# Altium integrated library Texas Instruments Power Management PWM Controller.IntLib: 1227 symbols (part 29 of 49)
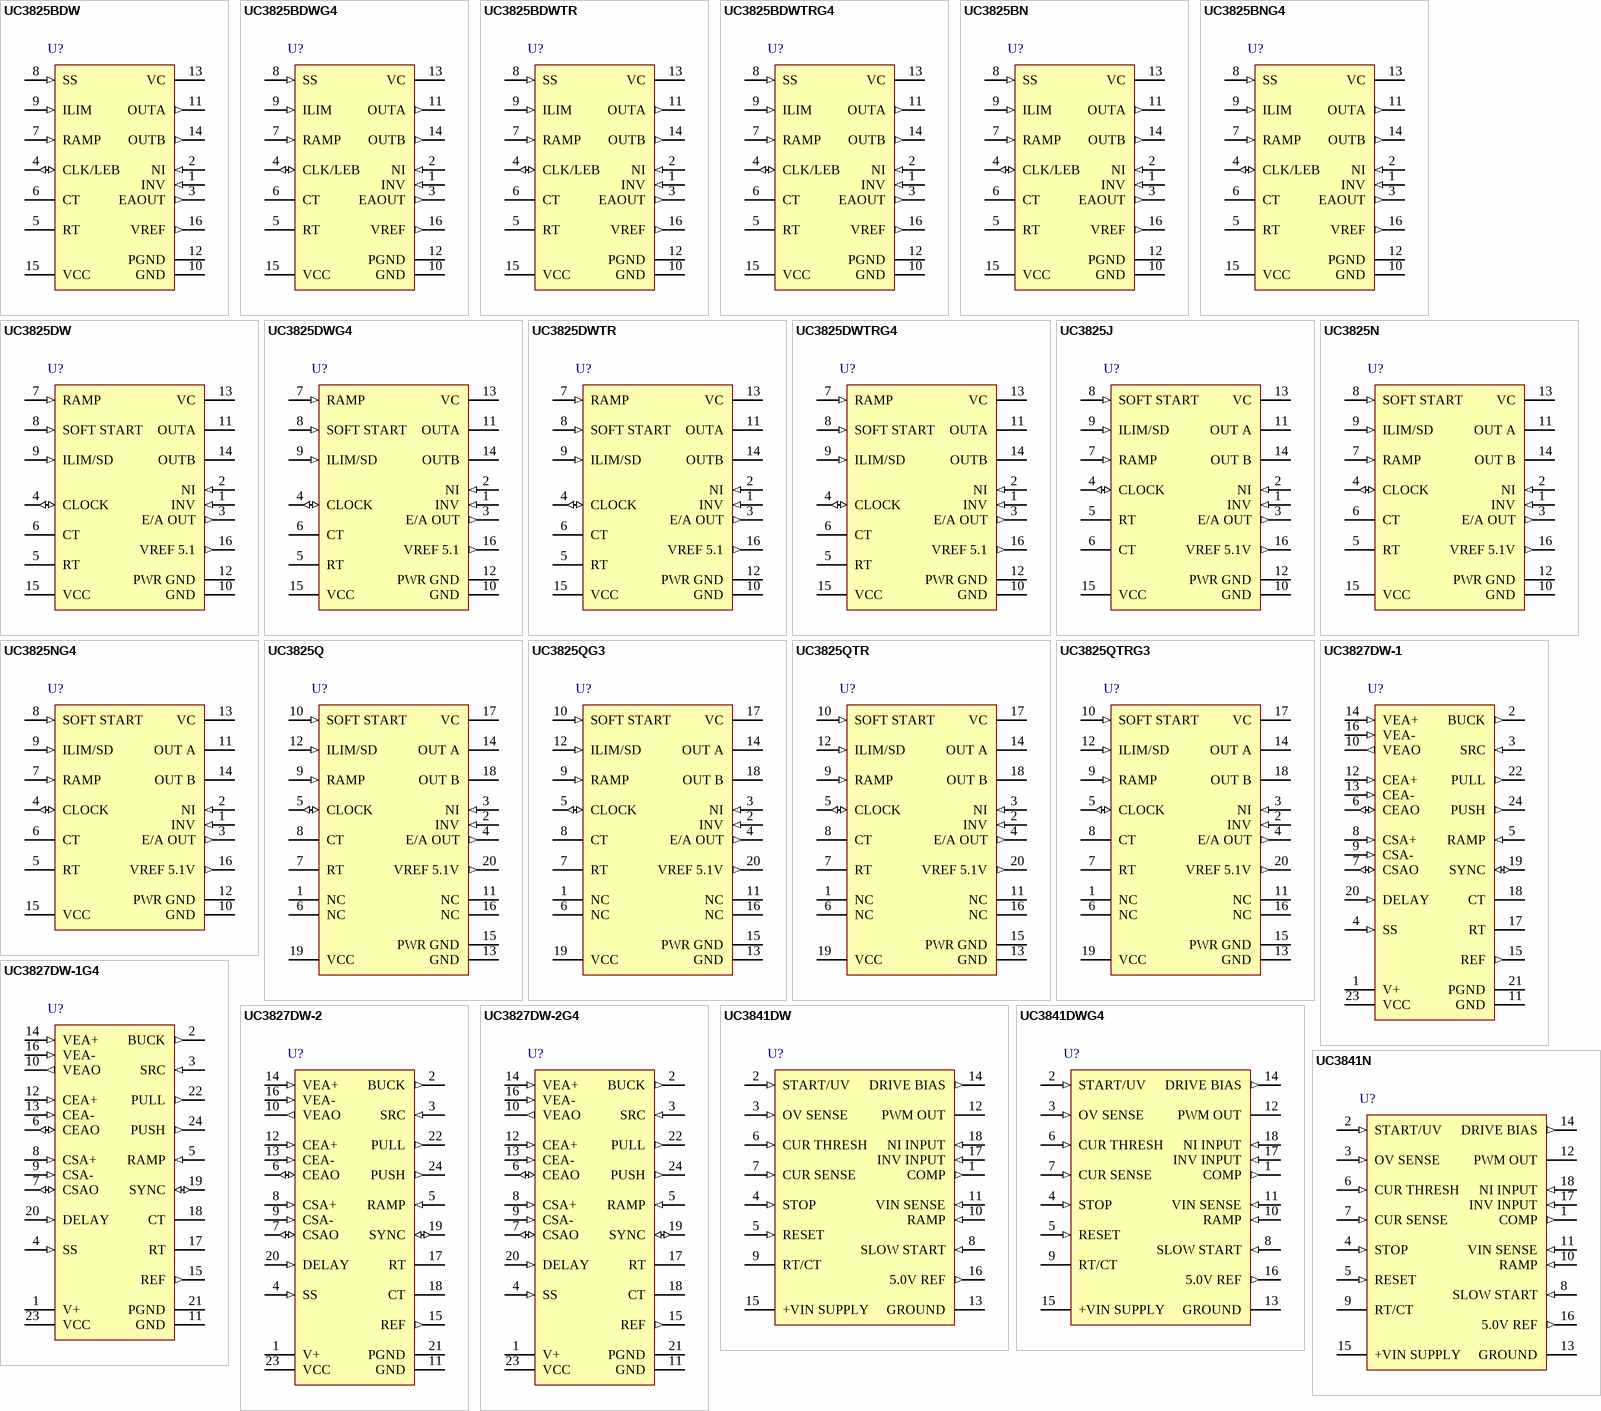
[diagram p71: symbols UC3825BDW to UC3841N]

## UC3827DW-2
designator U?
Buck Current / Voltage Fed Push - Pull PWM Controller with Current Control, 50 % Duty Cycle, 0 to +70 degC, 24-pin SOIC (DW), Green (RoHS & no Sb/Br); PartNumber: UC3827DW-2; Manufacturer: Texas Instruments; Duty Cycle(Max)(%): 50; Frequency(Max)(kHz): 450; Rating: Catalog; Regulated Outputs(#): 3; Topology: Buck, Full-Bridge, Push-Pull; DatasheetVersion: SLUS365D; PackageVersion: revG, Jan-2011; PackageReference: DW24; PackageDescription: 24-Pin Plastic Small Outline Integrated Circuit, 15.4 x 7.5 mm, Pitch 1.27 mm Pitch; Supplier 1: Digi-Key; Supplier Part Number 1: 296-2520-5-ND; Supplier 2: Newark; Supplier Part Number 2: 77C3262; Supplier 3: Mouser; Supplier Part Number 3: 595-UC3827DW-2; Control Method: Current; Eco-Plan: Green (RoHS & no Sb/Br); SubFamily: PWM Controller; UVLO Thresholds On/Off(V): 9/8.4; Mounting Technology: Surface Mount; Code_JEDEC: MS-013AD; ComponentLink1Description: Datasheet; ComponentLink1URL: http://www.ti.com/general/docs/lit/getliterature.tsp?genericPartNumber=UC3827-2&fileType=pdf
footprint DW24_N (SOIC, 24-Leads, Body 15.4x7.5mm, Pitch 1.27mm, IPC Medium Density)
footprint DW24_L (SOIC, 24-Leads, Body 15.4x7.5mm, Pitch 1.27mm, IPC High Density)
footprint DW24_M (SOIC, 24-Leads, Body 15.4x7.5mm, Pitch 1.27mm, IPC Low Density)
pins: 1 V+ (power) "Supply voltage for the buck output. The floating driver of the UC3827 uses the bootstrap technique which requires a reservoir capacitor to store the required energy for the buck switch.A diode must be connected from VCC to (See Datasheet)", 2 BUCK (out) "Output of the buck PWM controller. The BUCK output is a floating driver, optimized for controlling thegate of an N-channel MOSFET. The peak sink and source currents are 1 A. VCC undervoltage faults disables BUCK to an off (See Datasheet)", 3 SRC (in) "The source connection for the floating buck switch. The voltage on the SRC pin can exceed VCC but must be lower than 90 V-VVCC. Also, during turn-off transients of the buck switch, the voltage at SRC can go to -2V.", 4 SS (in) "Soft-start pin requires a capacitor to GND. During soft-start the output of the voltage error amplifier is clamped to the soft-start capacitor voltage which is slowly charged by an internal current source. In UVLO, SS is (See Datasheet)", 5 RAMP (in) "The RAMP voltage, after a 700 mV internal level shift, is fed to the noninverting input of the buck PWM comparator. A resistor to VIN and a capacitor to GND provide an input voltage feedforward signal for the buck controller (See Datasheet)", 6 CEAO (io) "Output of the current error amplifier and the inverting input of the PWM comparator of the buck converter.", 7 CSAO (io) "Output of the current sense amplifier and the noninverting input of the current limit comparator.when  the signal level on this pin exceeds the 3V threshold of the current limit comparator, the buck gate drive pulse is (See Datasheet)", 8 CSA+ (in) "Non-inverting input of the current error amplifier.", 9 CSA- (in) "Inverting input of the current error amplifier.", 10 VEAO (out) "Output of the voltage error amplifier.", 11 GND (power) "Ground reference for all sensitive setup components not related to driving the outputs. They include all timing, voltage sense, current sense, and bypass components.", 12 CEA+ (in) "Non-inverting input of the current error amplifier.", 13 CEA- (in) "Inverting input of the current error amplifier.", 14 VEA+ (in) "Non-inverting input of the voltage error amplifier.", 15 REF (out) "The output of the +5V on board reference.Byaoss this pin with a capacitor to GND. The reference is off when the chip is in undervoltage lockout mode.", 16 VEA- (in) "Inverting input of the voltage error amplifier", 17 RT "A resistor to GND programs the charge current of the timing capacitor connected to CT. The charge current approximately equals that shown in equation. The charge current should be less than 500 uA to keep CT's discharge peak (See Datasheet)", 18 CT "Provides for the timing capacitor which is connected between CT and GND. The oscillator frequency is set by CT and a resistor RT, connected between pin RT and GND. The CT discharge current is approximately 40 x the bias (See Datasheet)", 19 SYNC (io) "A bidirectional pin for the oscillator., used to synchronize several chips to the fastest oscillator. Its input synchronization threshold is 1.4 V. The SYNC voltage is 3.6 V when the oscillator capacitor, CT, is discharged. (See Datasheet)", 20 DELAY (in) "A resistor to GND programs the overlap time of the PUSH and PULL outputs of the UC3827-1 and the dead time of the PUSH and PULL outputs of the UC3827-2. The minimum value of the resistor, RDELAY, is 18 kohm. The delay or (See Datasheet)", 21 PGND (power) "Ground connection for the PUSH and PULL outputs. PGND must be connected to GND at a single point on the printed circuit board. This is imperative to prevent large, high frequency switching currents flowing through the ground (See Datasheet)", 22 PULL (out) "Ground referenced output to drive an N-channel MOSFET. The PULL and the PUSH outputs are driving the two switches of the push-pull converter with complementary signals at close to a 50% duty cycle.Any undervoltage faults (See Datasheet)", 23 VCC (power) "Voltage source connected to this pin supplies the power for the UC3827.It is recommended to bypass this pin to both GND and PGND ground connections with good quality high frequency capacitors.", 24 PUSH (out) "Ground referenced output to drive an N-channel MOSFET. The PULL and the PUSH outputs are driving the two switches of the push-pull converter with complementary signals at close to a 50% duty cycle. Any undervoltage faults (See Datasheet)"

## UC3827DW-2G4
designator U?
Buck Current / Voltage Fed Push - Pull PWM Controller with Current Control, 50 % Duty Cycle, 0 to +70 degC, 24-pin SOIC (DW), Green (RoHS & no Sb/Br); PartNumber: UC3827DW-2G4; Manufacturer: Texas Instruments; Duty Cycle(Max)(%): 50; Frequency(Max)(kHz): 450; Rating: Catalog; Regulated Outputs(#): 3; Topology: Buck, Full-Bridge, Push-Pull; DatasheetVersion: SLUS365D; PackageVersion: revG, Jan-2011; PackageReference: DW24; PackageDescription: 24-Pin Plastic Small Outline Integrated Circuit, 15.4 x 7.5 mm, Pitch 1.27 mm Pitch; Supplier 1: Digi-Key; Supplier Part Number 1: UC3827DW-2G4-ND; Supplier 2: Newark; Supplier Part Number 2: 73K9707; Supplier 3: Mouser; Supplier Part Number 3: 595-UC3827DW-2G4; Control Method: Current; Eco-Plan: Green (RoHS & no Sb/Br); SubFamily: PWM Controller; UVLO Thresholds On/Off(V): 9/8.4; Mounting Technology: Surface Mount; Code_JEDEC: MS-013AD; ComponentLink1Description: Datasheet; ComponentLink1URL: http://www.ti.com/general/docs/lit/getliterature.tsp?genericPartNumber=UC3827-2&fileType=pdf
footprint DW24_N (SOIC, 24-Leads, Body 15.4x7.5mm, Pitch 1.27mm, IPC Medium Density)
footprint DW24_L (SOIC, 24-Leads, Body 15.4x7.5mm, Pitch 1.27mm, IPC High Density)
footprint DW24_M (SOIC, 24-Leads, Body 15.4x7.5mm, Pitch 1.27mm, IPC Low Density)
pins: 1 V+ (power) "Supply voltage for the buck output. The floating driver of the UC3827 uses the bootstrap technique which requires a reservoir capacitor to store the required energy for the buck switch.A diode must be connected from VCC to (See Datasheet)", 2 BUCK (out) "Output of the buck PWM controller. The BUCK output is a floating driver, optimized for controlling thegate of an N-channel MOSFET. The peak sink and source currents are 1 A. VCC undervoltage faults disables BUCK to an off (See Datasheet)", 3 SRC (in) "The source connection for the floating buck switch. The voltage on the SRC pin can exceed VCC but must be lower than 90 V-VVCC. Also, during turn-off transients of the buck switch, the voltage at SRC can go to -2V.", 4 SS (in) "Soft-start pin requires a capacitor to GND. During soft-start the output of the voltage error amplifier is clamped to the soft-start capacitor voltage which is slowly charged by an internal current source. In UVLO, SS is (See Datasheet)", 5 RAMP (in) "The RAMP voltage, after a 700 mV internal level shift, is fed to the noninverting input of the buck PWM comparator. A resistor to VIN and a capacitor to GND provide an input voltage feedforward signal for the buck controller (See Datasheet)", 6 CEAO (io) "Output of the current error amplifier and the inverting input of the PWM comparator of the buck converter.", 7 CSAO (io) "Output of the current sense amplifier and the noninverting input of the current limit comparator.when  the signal level on this pin exceeds the 3V threshold of the current limit comparator, the buck gate drive pulse is (See Datasheet)", 8 CSA+ (in) "Non-inverting input of the current error amplifier.", 9 CSA- (in) "Inverting input of the current error amplifier.", 10 VEAO (out) "Output of the voltage error amplifier.", 11 GND (power) "Ground reference for all sensitive setup components not related to driving the outputs. They include all timing, voltage sense, current sense, and bypass components.", 12 CEA+ (in) "Non-inverting input of the current error amplifier.", 13 CEA- (in) "Inverting input of the current error amplifier.", 14 VEA+ (in) "Non-inverting input of the voltage error amplifier.", 15 REF (out) "The output of the +5V on board reference.Byaoss this pin with a capacitor to GND. The reference is off when the chip is in undervoltage lockout mode.", 16 VEA- (in) "Inverting input of the voltage error amplifier", 17 RT "A resistor to GND programs the charge current of the timing capacitor connected to CT. The charge current approximately equals that shown in equation. The charge current should be less than 500 uA to keep CT's discharge peak (See Datasheet)", 18 CT "Provides for the timing capacitor which is connected between CT and GND. The oscillator frequency is set by CT and a resistor RT, connected between pin RT and GND. The CT discharge current is approximately 40 x the bias (See Datasheet)", 19 SYNC (io) "A bidirectional pin for the oscillator., used to synchronize several chips to the fastest oscillator. Its input synchronization threshold is 1.4 V. The SYNC voltage is 3.6 V when the oscillator capacitor, CT, is discharged. (See Datasheet)", 20 DELAY (in) "A resistor to GND programs the overlap time of the PUSH and PULL outputs of the UC3827-1 and the dead time of the PUSH and PULL outputs of the UC3827-2. The minimum value of the resistor, RDELAY, is 18 kohm. The delay or (See Datasheet)", 21 PGND (power) "Ground connection for the PUSH and PULL outputs. PGND must be connected to GND at a single point on the printed circuit board. This is imperative to prevent large, high frequency switching currents flowing through the ground (See Datasheet)", 22 PULL (out) "Ground referenced output to drive an N-channel MOSFET. The PULL and the PUSH outputs are driving the two switches of the push-pull converter with complementary signals at close to a 50% duty cycle.Any undervoltage faults (See Datasheet)", 23 VCC (power) "Voltage source connected to this pin supplies the power for the UC3827.It is recommended to bypass this pin to both GND and PGND ground connections with good quality high frequency capacitors.", 24 PUSH (out) "Ground referenced output to drive an N-channel MOSFET. The PULL and the PUSH outputs are driving the two switches of the push-pull converter with complementary signals at close to a 50% duty cycle. Any undervoltage faults (See Datasheet)"

## UC3841DW
designator U?
Programmable, Off-Line, PWM Controller with Current, Voltage Control, 95 % Duty Cycle, 0 to +70 degC, 18-pin SOIC (DW), Green (RoHS & no Sb/Br); PartNumber: UC3841DW; Manufacturer: Texas Instruments; Duty Cycle(Max)(%): 95; Frequency(Max)(kHz): 450; Rating: Military; Regulated Outputs(#): 1; Topology: Boost, Flyback, Forward; DatasheetVersion: SLUS208; PackageVersion: revG, Jan-2011; PackageReference: DW18; PackageDescription: 18-Pin Plastic Small Outline Integrated Circuit, 11.6 x 7.5 mm, Pitch 1.27 mm Pitch; Supplier 1: Digi-Key; Supplier Part Number 1: UC3841DW-ND; Supplier 2: Newark; Supplier Part Number 2: 77C3286; Supplier 3: Mouser; Supplier Part Number 3: 595-UC3841DW; Control Method: Current, Voltage; Eco-Plan: Green (RoHS & no Sb/Br); SubFamily: PWM Controller; UVLO Thresholds On/Off(V): 8/7.8; Mounting Technology: Surface Mount; Code_JEDEC: MS-013-AB; ComponentLink1Description: Datasheet; ComponentLink1URL: http://www.ti.com/general/docs/lit/getliterature.tsp?genericPartNumber=UC3841&fileType=pdf
footprint DW18_N (SOIC, 18-Leads, Body 11.6x7.5mm, Pitch 1.27mm, IPC Medium Density)
footprint DW18_L (SOIC, 18-Leads, Body 11.6x7.5mm, Pitch 1.27mm, IPC High Density)
footprint DW18_M (SOIC, 18-Leads, Body 11.6x7.5mm, Pitch 1.27mm, IPC Low Density)
pins: 1 COMP (out), 2 START/UV (in), 3 OV SENSE (in), 4 STOP (in), 5 RESET (in), 6 CUR THRESH (in), 7 CUR SENSE (in), 8 SLOW START (in), 9 RT/CT, 10 RAMP (in), 11 VIN SENSE (in), 12 PWM OUT (oc), 13 GROUND (power), 14 DRIVE BIAS (out), 15 +VIN SUPPLY (power), 16 5.0V REF (out), 17 INV INPUT (in), 18 NI INPUT (in)

## UC3841DWG4
designator U?
Programmable, Off-Line, PWM Controller with Current, Voltage Control, 95 % Duty Cycle, 0 to +70 degC, 18-pin SOIC (DW), Green (RoHS & no Sb/Br); PartNumber: UC3841DWG4; Manufacturer: Texas Instruments; Duty Cycle(Max)(%): 95; Frequency(Max)(kHz): 450; Rating: Military; Regulated Outputs(#): 1; Topology: Boost, Flyback, Forward; DatasheetVersion: SLUS208; PackageVersion: revG, Jan-2011; PackageReference: DW18; PackageDescription: 18-Pin Plastic Small Outline Integrated Circuit, 11.6 x 7.5 mm, Pitch 1.27 mm Pitch; Supplier 1: Digi-Key; Supplier Part Number 1: UC3841DWG4-ND; Supplier 2: Newark; Supplier Part Number 2: 66K4923; Supplier 3: Mouser; Supplier Part Number 3: 595-UC3841DWG4; Control Method: Current, Voltage; Eco-Plan: Green (RoHS & no Sb/Br); SubFamily: PWM Controller; UVLO Thresholds On/Off(V): 8/7.8; Mounting Technology: Surface Mount; Code_JEDEC: MS-013-AB; ComponentLink1Description: Datasheet; ComponentLink1URL: http://www.ti.com/general/docs/lit/getliterature.tsp?genericPartNumber=UC3841&fileType=pdf
footprint DW18_N (SOIC, 18-Leads, Body 11.6x7.5mm, Pitch 1.27mm, IPC Medium Density)
footprint DW18_L (SOIC, 18-Leads, Body 11.6x7.5mm, Pitch 1.27mm, IPC High Density)
footprint DW18_M (SOIC, 18-Leads, Body 11.6x7.5mm, Pitch 1.27mm, IPC Low Density)
pins: 1 COMP (out), 2 START/UV (in), 3 OV SENSE (in), 4 STOP (in), 5 RESET (in), 6 CUR THRESH (in), 7 CUR SENSE (in), 8 SLOW START (in), 9 RT/CT, 10 RAMP (in), 11 VIN SENSE (in), 12 PWM OUT (oc), 13 GROUND (power), 14 DRIVE BIAS (out), 15 +VIN SUPPLY (power), 16 5.0V REF (out), 17 INV INPUT (in), 18 NI INPUT (in)

## UC3841N
designator U?
Programmable, Off-Line, PWM Controller with Current, Voltage Control, 95 % Duty Cycle, 0 to +70 degC, 18-pin PDIP (N), Green (RoHS & no Sb/Br); PartNumber: UC3841N; Manufacturer: Texas Instruments; Duty Cycle(Max)(%): 95; Frequency(Max)(kHz): 450; Rating: Military; Regulated Outputs(#): 1; Topology: Boost, Flyback, Forward; DatasheetVersion: SLUS208; PackageVersion: revE, Dec-2002; PackageReference: N18; PackageDescription: 18-Pin Plastic Dual-In-Line Package, Row Spacing 7.62 mm, Pitch 2.54 mm; Supplier 1: Digi-Key; Supplier Part Number 1: 296-11277-5-ND; Supplier 2: Newark; Supplier Part Number 2: 22C4919; Supplier 3: Mouser; Supplier Part Number 3: 595-UC3841N; Control Method: Current, Voltage; Eco-Plan: Green (RoHS & no Sb/Br); SubFamily: PWM Controller; UVLO Thresholds On/Off(V): 8/7.8; Mounting Technology: Through Hole; Code_JEDEC: MS-001-AC*; ComponentLink1Description: Datasheet; ComponentLink1URL: http://www.ti.com/general/docs/lit/getliterature.tsp?genericPartNumber=UC3841&fileType=pdf
footprint N18 (DIP, 18-Leads, Row Spacing 7.62mm, Pitch 2.54mm, Body 22.5x6.4mm)
pins: 1 COMP (out), 2 START/UV (in), 3 OV SENSE (in), 4 STOP (in), 5 RESET (in), 6 CUR THRESH (in), 7 CUR SENSE (in), 8 SLOW START (in), 9 RT/CT, 10 RAMP (in), 11 VIN SENSE (in), 12 PWM OUT (oc), 13 GROUND (power), 14 DRIVE BIAS (out), 15 +VIN SUPPLY (power), 16 5.0V REF (out), 17 INV INPUT (in), 18 NI INPUT (in)

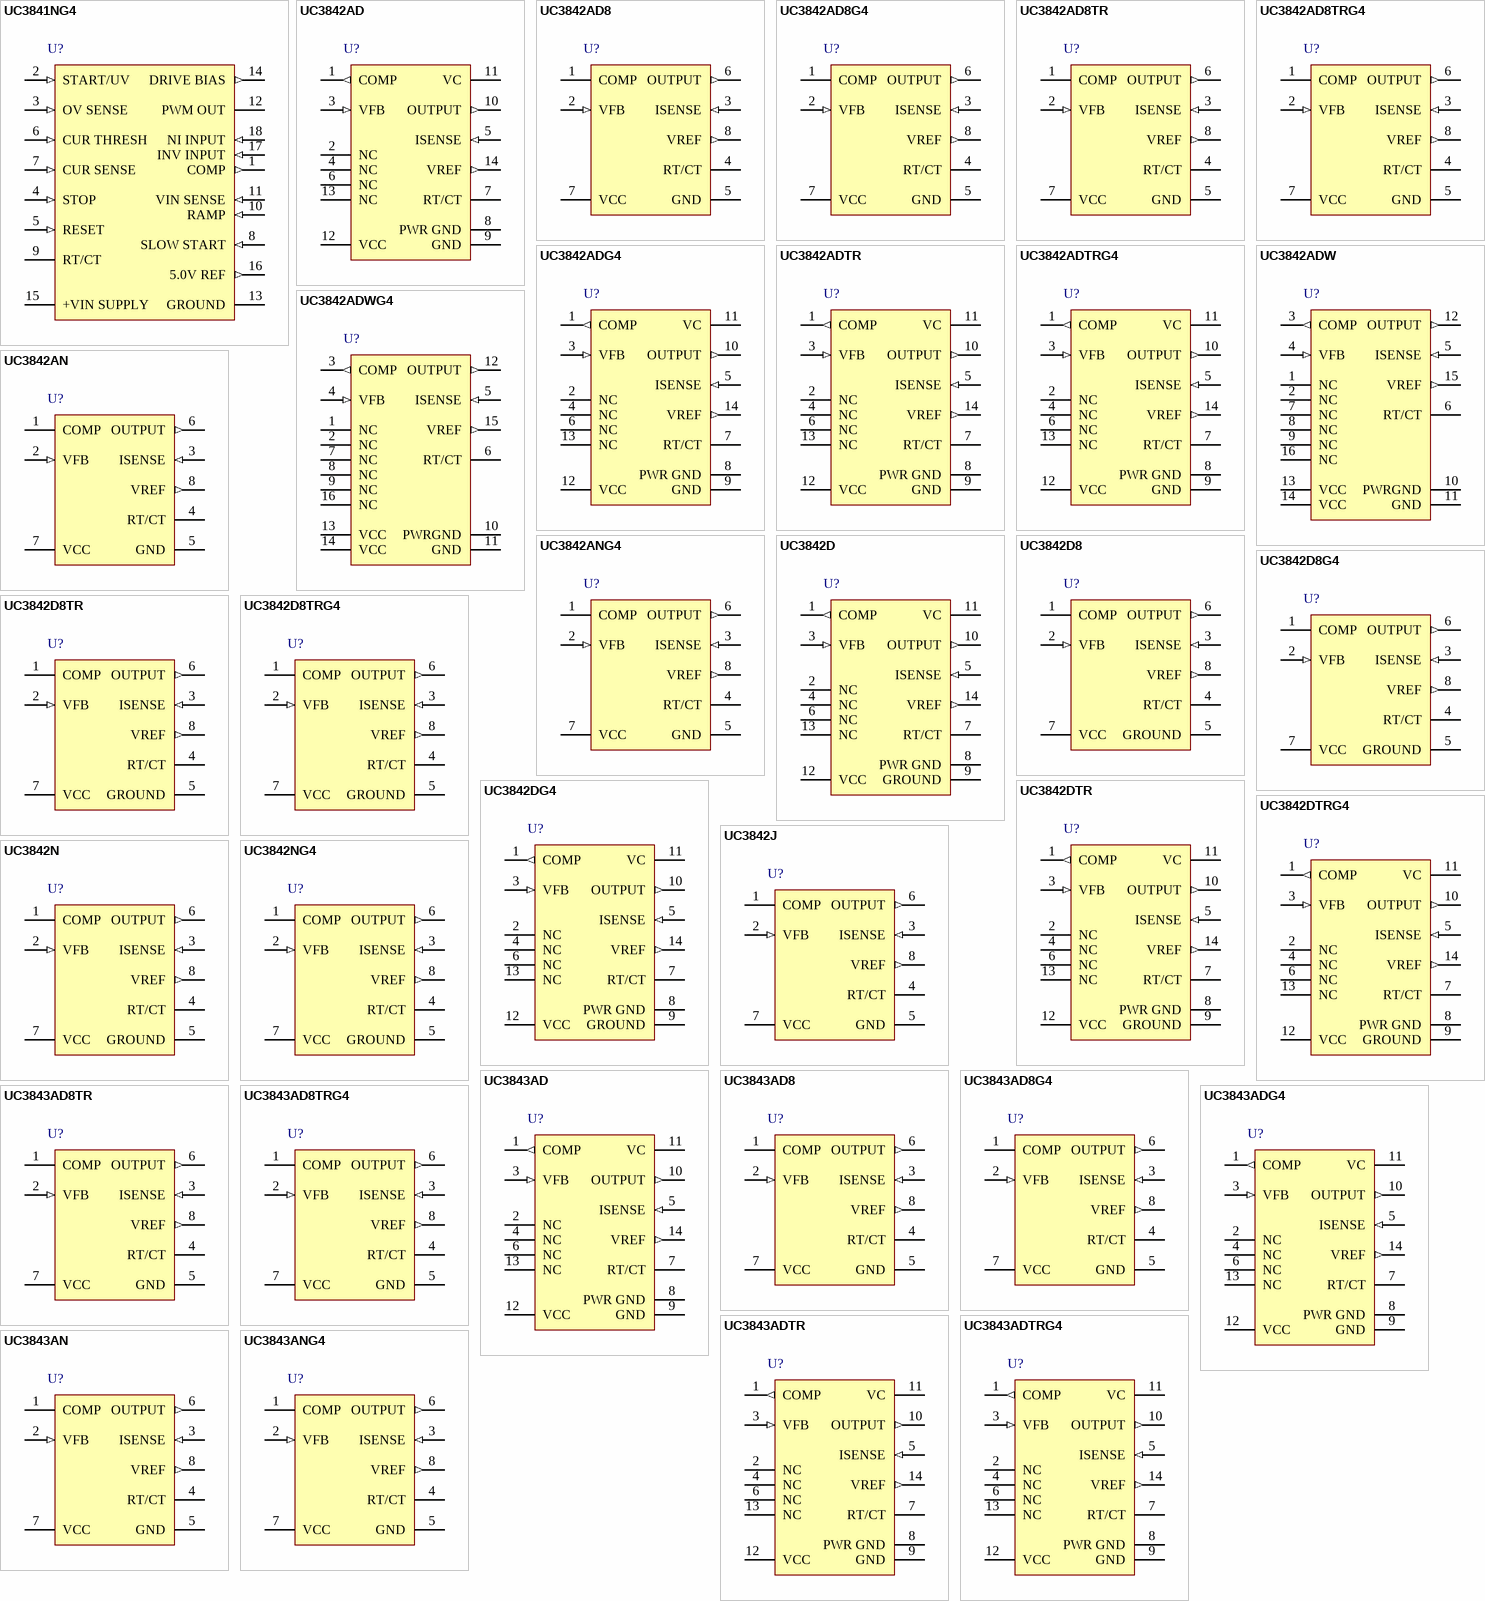
[diagram p31: symbols UC3841NG4 to UC3843ANG4]

## UC3841NG4
designator U?
Programmable, Off-Line, PWM Controller with Current, Voltage Control, 95 % Duty Cycle, 0 to +70 degC, 18-pin PDIP (N), Green (RoHS & no Sb/Br); PartNumber: UC3841NG4; Manufacturer: Texas Instruments; Duty Cycle(Max)(%): 95; Frequency(Max)(kHz): 450; Rating: Military; Regulated Outputs(#): 1; Topology: Boost, Flyback, Forward; DatasheetVersion: SLUS208; PackageVersion: revE, Dec-2002; PackageReference: N18; PackageDescription: 18-Pin Plastic Dual-In-Line Package, Row Spacing 7.62 mm, Pitch 2.54 mm; Supplier 1: Digi-Key; Supplier Part Number 1: UC3841NG4-ND; Supplier 2: Newark; Supplier Part Number 2: 54K2327; Supplier 3: Mouser; Supplier Part Number 3: 595-UC3841NG4; Control Method: Current,Voltage; Eco-Plan: Green (RoHS & no Sb/Br); SubFamily: PWM Controller; UVLO Thresholds On/Off(V): 8/7.8; Mounting Technology: Through Hole; Code_JEDEC: MS-001-AC*; ComponentLink1Description: Datasheet; ComponentLink1URL: http://www.ti.com/general/docs/lit/getliterature.tsp?genericPartNumber=UC3841&fileType=pdf
footprint N18 (DIP, 18-Leads, Row Spacing 7.62mm, Pitch 2.54mm, Body 22.5x6.4mm)
pins: 1 COMP (out), 2 START/UV (in), 3 OV SENSE (in), 4 STOP (in), 5 RESET (in), 6 CUR THRESH (in), 7 CUR SENSE (in), 8 SLOW START (in), 9 RT/CT, 10 RAMP (in), 11 VIN SENSE (in), 12 PWM OUT (oc), 13 GROUND (power), 14 DRIVE BIAS (out), 15 +VIN SUPPLY (power), 16 5.0V REF (out), 17 INV INPUT (in), 18 NI INPUT (in)

## UC3842AD
designator U?
PWM Controller with Current Control, 100 % Duty Cycle, 0 to +70 degC, 14-pin SOIC (D), Green (RoHS & no Sb/Br); PartNumber: UC3842AD; Manufacturer: Texas Instruments; Duty Cycle(Max)(%): 100; Frequency(Max)(kHz): 450; Rating: Catalog; Regulated Outputs(#): 1; Topology: Boost, Buck, Flyback, Forward; UVLO Thresholds On/Off(V): 16/10; DatasheetVersion: SLUS224C; PackageVersion: revM, Jun-2011; PackageReference: D14; PackageDescription: 14-Pin Plastic Small Outline Integrated Circuit, 8.7 x 3.9 mm, Pitch 1.27 mm Pitch; Supplier 1: Digi-Key; Supplier Part Number 1: 296-11278-5-ND; Supplier 2: Farnell; Supplier Part Number 2: 1461267; Supplier 3: Newark; Supplier Part Number 3: 88K1282; Supplier 4: Mouser; Supplier Part Number 4: 595-UC3842AD; Control Method: Current; Eco-Plan: Green (RoHS & no Sb/Br); SubFamily: PWM Controller; Mounting Technology: Surface Mount; Code_JEDEC: MS-012AB; ComponentLink1Description: Datasheet; ComponentLink1URL: http://www.ti.com/general/docs/lit/getliterature.tsp?genericPartNumber=UC3842A&fileType=pdf
footprint D14_N (SOIC, 14-Leads, Body 8.7x3.9mm, Pitch 1.27mm, IPC Medium Density)
footprint D14_L (SOIC, 14-Leads, Body 8.7x3.9mm, Pitch 1.27mm, IPC High Density)
footprint D14_M (SOIC, 14-Leads, Body 8.7x3.9mm, Pitch 1.27mm, IPC Low Density)
pins: 1 COMP (out), 2 NC, 3 VFB (in), 4 NC, 5 ISENSE (in), 6 NC, 7 RT/CT, 8 PWR GND (power), 9 GND (power), 10 OUTPUT (out), 11 VC (power), 12 VCC (power), 13 NC, 14 VREF (out)

## UC3842AD8
designator U?
PWM Controller with Current Control, 100 % Duty Cycle, 0 to +70 degC, 8-pin SOIC (D), Green (RoHS & no Sb/Br); PartNumber: UC3842AD8; Manufacturer: Texas Instruments; Duty Cycle(Max)(%): 100; Frequency(Max)(kHz): 450; Rating: Catalog; Regulated Outputs(#): 1; Topology: Boost, Buck, Flyback, Forward; UVLO Thresholds On/Off(V): 16/10; DatasheetVersion: SLUS224C; PackageVersion: revM, Jun-2011; PackageReference: D8; PackageDescription: 8-Pin Plastic Small Outline Integrated Circuit, 4.9 x 3.9 mm, Pitch 1.27 mm Pitch; Supplier 1: Digi-Key; Supplier Part Number 1: 296-11279-5-ND; Supplier 2: Farnell; Supplier Part Number 2: 1564880; Supplier 3: Newark; Supplier Part Number 3: 74K4011; Supplier 4: Mouser; Supplier Part Number 4: 595-UC3842AD8; Control Method: Current; Eco-Plan: Green (RoHS & no Sb/Br); SubFamily: PWM Controller; Mounting Technology: Surface Mount; Code_JEDEC: MS-012AA; ComponentLink1Description: Datasheet; ComponentLink1URL: http://www.ti.com/general/docs/lit/getliterature.tsp?genericPartNumber=UC3842A&fileType=pdf
footprint D8_N (SOIC, 8-Leads, Body 4.9x3.9mm, Pitch 1.27mm, IPC Medium Density)
footprint D8_L (SOIC, 8-Leads, Body 4.9x3.9mm, Pitch 1.27mm, IPC High Density)
footprint D8_M (SOIC, 8-Leads, Body 4.9x3.9mm, Pitch 1.27mm, IPC Low Density)
pins: 1 COMP, 2 VFB (in), 3 ISENSE (in), 4 RT/CT, 5 GND (power), 6 OUTPUT (out), 7 VCC (power), 8 VREF (out)

## UC3842AD8G4
designator U?
PWM Controller with Current Control, 100 % Duty Cycle, 0 to +70 degC, 8-pin SOIC (D), Green (RoHS & no Sb/Br); PartNumber: UC3842AD8G4; Manufacturer: Texas Instruments; Duty Cycle(Max)(%): 100; Frequency(Max)(kHz): 450; Rating: Catalog; Regulated Outputs(#): 1; Topology: Boost, Buck, Flyback, Forward; UVLO Thresholds On/Off(V): 16/10; DatasheetVersion: SLUS224C; PackageVersion: revM, Jun-2011; PackageReference: D8; PackageDescription: 8-Pin Plastic Small Outline Integrated Circuit, 4.9 x 3.9 mm, Pitch 1.27 mm Pitch; Supplier 1: Digi-Key; Supplier Part Number 1: UC3842AD8G4-ND; Supplier 2: Newark; Supplier Part Number 2: 73K9709; Supplier 3: Mouser; Supplier Part Number 3: 595-UC3842AD8G4; Control Method: Current; Eco-Plan: Green (RoHS & no Sb/Br); SubFamily: PWM Controller; Mounting Technology: Surface Mount; Code_JEDEC: MS-012AA; ComponentLink1Description: Datasheet; ComponentLink1URL: http://www.ti.com/general/docs/lit/getliterature.tsp?genericPartNumber=UC3842A&fileType=pdf
footprint D8_N (SOIC, 8-Leads, Body 4.9x3.9mm, Pitch 1.27mm, IPC Medium Density)
footprint D8_L (SOIC, 8-Leads, Body 4.9x3.9mm, Pitch 1.27mm, IPC High Density)
footprint D8_M (SOIC, 8-Leads, Body 4.9x3.9mm, Pitch 1.27mm, IPC Low Density)
pins: 1 COMP, 2 VFB (in), 3 ISENSE (in), 4 RT/CT, 5 GND (power), 6 OUTPUT (out), 7 VCC (power), 8 VREF (out)

## UC3842AD8TR
designator U?
PWM Controller with Current Control, 100 % Duty Cycle, 0 to +70 degC, 8-pin SOIC (D), Green (RoHS & no Sb/Br); PartNumber: UC3842AD8TR; Manufacturer: Texas Instruments; Duty Cycle(Max)(%): 100; Frequency(Max)(kHz): 450; Rating: Catalog; Regulated Outputs(#): 1; Topology: Boost, Buck, Flyback, Forward; UVLO Thresholds On/Off(V): 16/10; DatasheetVersion: SLUS224C; PackageVersion: revM, Jun-2011; PackageReference: D8; PackageDescription: 8-Pin Plastic Small Outline Integrated Circuit, 4.9 x 3.9 mm, Pitch 1.27 mm Pitch; Supplier 1: Digi-Key; Supplier Part Number 1: UC3842AD8TR-ND; Supplier 2: Newark; Supplier Part Number 2: 77C3294; Supplier 3: Mouser; Supplier Part Number 3: 595-UC3842AD8TR; Control Method: Current; Eco-Plan: Green (RoHS & no Sb/Br); SubFamily: PWM Controller; Mounting Technology: Surface Mount; Code_JEDEC: MS-012AA; ComponentLink1Description: Datasheet; ComponentLink1URL: http://www.ti.com/general/docs/lit/getliterature.tsp?genericPartNumber=UC3842A&fileType=pdf
footprint D8_N (SOIC, 8-Leads, Body 4.9x3.9mm, Pitch 1.27mm, IPC Medium Density)
footprint D8_L (SOIC, 8-Leads, Body 4.9x3.9mm, Pitch 1.27mm, IPC High Density)
footprint D8_M (SOIC, 8-Leads, Body 4.9x3.9mm, Pitch 1.27mm, IPC Low Density)
pins: 1 COMP, 2 VFB (in), 3 ISENSE (in), 4 RT/CT, 5 GND (power), 6 OUTPUT (out), 7 VCC (power), 8 VREF (out)

## UC3842AD8TRG4
designator U?
PWM Controller with Current Control, 100 % Duty Cycle, 0 to +70 degC, 8-pin SOIC (D), Green (RoHS & no Sb/Br); PartNumber: UC3842AD8TRG4; Manufacturer: Texas Instruments; Duty Cycle(Max)(%): 100; Frequency(Max)(kHz): 450; Rating: Catalog; Regulated Outputs(#): 1; Topology: Boost, Buck, Flyback, Forward; UVLO Thresholds On/Off(V): 16/10; DatasheetVersion: SLUS224C; PackageVersion: revM, Jun-2011; PackageReference: D8; PackageDescription: 8-Pin Plastic Small Outline Integrated Circuit, 4.9 x 3.9 mm, Pitch 1.27 mm Pitch; Supplier 1: Digi-Key; Supplier Part Number 1: UC3842AD8TRG4-ND; Supplier 2: Newark; Supplier Part Number 2: 28K5771; Supplier 3: Mouser; Supplier Part Number 3: 595-UC3842AD8TRG4; Control Method: Current; Eco-Plan: Green (RoHS & no Sb/Br); SubFamily: PWM Controller; Mounting Technology: Surface Mount; Code_JEDEC: MS-012AA; ComponentLink1Description: Datasheet; ComponentLink1URL: http://www.ti.com/general/docs/lit/getliterature.tsp?genericPartNumber=UC3842A&fileType=pdf
footprint D8_N (SOIC, 8-Leads, Body 4.9x3.9mm, Pitch 1.27mm, IPC Medium Density)
footprint D8_L (SOIC, 8-Leads, Body 4.9x3.9mm, Pitch 1.27mm, IPC High Density)
footprint D8_M (SOIC, 8-Leads, Body 4.9x3.9mm, Pitch 1.27mm, IPC Low Density)
pins: 1 COMP, 2 VFB (in), 3 ISENSE (in), 4 RT/CT, 5 GND (power), 6 OUTPUT (out), 7 VCC (power), 8 VREF (out)

## UC3842ADG4
designator U?
PWM Controller with Current Control, 100 % Duty Cycle, 0 to +70 degC, 14-pin SOIC (D), Green (RoHS & no Sb/Br); PartNumber: UC3842ADG4; Manufacturer: Texas Instruments; Duty Cycle(Max)(%): 100; Frequency(Max)(kHz): 450; Rating: Catalog; Regulated Outputs(#): 1; Topology: Boost, Buck, Flyback, Forward; UVLO Thresholds On/Off(V): 16/10; DatasheetVersion: SLUS224C; PackageVersion: revM, Jun-2011; PackageReference: D14; PackageDescription: 14-Pin Plastic Small Outline Integrated Circuit, 8.7 x 3.9 mm, Pitch 1.27 mm Pitch; Supplier 1: Digi-Key; Supplier Part Number 1: UC3842ADG4-ND; Supplier 2: Newark; Supplier Part Number 2: 99K4492; Supplier 3: Mouser; Supplier Part Number 3: 595-UC3842ADG4; Control Method: Current; Eco-Plan: Green (RoHS & no Sb/Br); SubFamily: PWM Controller; Mounting Technology: Surface Mount; Code_JEDEC: MS-012AB; ComponentLink1Description: Datasheet; ComponentLink1URL: http://www.ti.com/general/docs/lit/getliterature.tsp?genericPartNumber=UC3842A&fileType=pdf
footprint D14_N (SOIC, 14-Leads, Body 8.7x3.9mm, Pitch 1.27mm, IPC Medium Density)
footprint D14_L (SOIC, 14-Leads, Body 8.7x3.9mm, Pitch 1.27mm, IPC High Density)
footprint D14_M (SOIC, 14-Leads, Body 8.7x3.9mm, Pitch 1.27mm, IPC Low Density)
pins: 1 COMP (out), 2 NC, 3 VFB (in), 4 NC, 5 ISENSE (in), 6 NC, 7 RT/CT, 8 PWR GND (power), 9 GND (power), 10 OUTPUT (out), 11 VC (power), 12 VCC (power), 13 NC, 14 VREF (out)

## UC3842ADTR
designator U?
PWM Controller with Current Control, 100 % Duty Cycle, 0 to +70 degC, 14-pin SOIC (D), Green (RoHS & no Sb/Br); PartNumber: UC3842ADTR; Manufacturer: Texas Instruments; Duty Cycle(Max)(%): 100; Frequency(Max)(kHz): 450; Rating: Catalog; Regulated Outputs(#): 1; Topology: Boost, Buck, Flyback, Forward; DatasheetVersion: SLUS224C; PackageVersion: revM, Jun-2011; PackageReference: D14; PackageDescription: 14-Pin Plastic Small Outline Integrated Circuit, 8.7 x 3.9 mm, Pitch 1.27 mm Pitch; Supplier 1: Digi-Key; Supplier Part Number 1: UC3842ADTR-ND; Supplier 2: Newark; Supplier Part Number 2: 77C3291; Supplier 3: Mouser; Supplier Part Number 3: 595-UC3842ADTR; Control Method: Current; Eco-Plan: Green (RoHS & no Sb/Br); SubFamily: PWM Controller; UVLO Thresholds On/Off(V): 16/10/2012; Mounting Technology: Surface Mount; Code_JEDEC: MS-012AB; ComponentLink1Description: Datasheet; ComponentLink1URL: http://www.ti.com/general/docs/lit/getliterature.tsp?genericPartNumber=UC3842A&fileType=pdf
footprint D14_N (SOIC, 14-Leads, Body 8.7x3.9mm, Pitch 1.27mm, IPC Medium Density)
footprint D14_L (SOIC, 14-Leads, Body 8.7x3.9mm, Pitch 1.27mm, IPC High Density)
footprint D14_M (SOIC, 14-Leads, Body 8.7x3.9mm, Pitch 1.27mm, IPC Low Density)
pins: 1 COMP (out), 2 NC, 3 VFB (in), 4 NC, 5 ISENSE (in), 6 NC, 7 RT/CT, 8 PWR GND (power), 9 GND (power), 10 OUTPUT (out), 11 VC (power), 12 VCC (power), 13 NC, 14 VREF (out)

## UC3842ADTRG4
designator U?
PWM Controller with Current Control, 100 % Duty Cycle, 0 to +70 degC, 14-pin SOIC (D), Green (RoHS & no Sb/Br); PartNumber: UC3842ADTRG4; Manufacturer: Texas Instruments; Duty Cycle(Max)(%): 100; Frequency(Max)(kHz): 450; Rating: Catalog; Regulated Outputs(#): 1; Topology: Boost, Buck, Flyback, Forward; UVLO Thresholds On/Off(V): 16/10; DatasheetVersion: SLUS224C; PackageVersion: revM, Jun-2011; PackageReference: D14; PackageDescription: 14-Pin Plastic Small Outline Integrated Circuit, 8.7 x 3.9 mm, Pitch 1.27 mm Pitch; Supplier 1: Digi-Key; Supplier Part Number 1: UC3842ADTRG4-ND; Supplier 2: Newark; Supplier Part Number 2: 14M4025; Supplier 3: Mouser; Supplier Part Number 3: 595-UC3842ADTRG4; Control Method: Current; Eco-Plan: Green (RoHS & no Sb/Br); SubFamily: PWM Controller; Mounting Technology: Surface Mount; Code_JEDEC: MS-012AB; ComponentLink1Description: Datasheet; ComponentLink1URL: http://www.ti.com/general/docs/lit/getliterature.tsp?genericPartNumber=UC3842A&fileType=pdf
footprint D14_N (SOIC, 14-Leads, Body 8.7x3.9mm, Pitch 1.27mm, IPC Medium Density)
footprint D14_L (SOIC, 14-Leads, Body 8.7x3.9mm, Pitch 1.27mm, IPC High Density)
footprint D14_M (SOIC, 14-Leads, Body 8.7x3.9mm, Pitch 1.27mm, IPC Low Density)
pins: 1 COMP (out), 2 NC, 3 VFB (in), 4 NC, 5 ISENSE (in), 6 NC, 7 RT/CT, 8 PWR GND (power), 9 GND (power), 10 OUTPUT (out), 11 VC (power), 12 VCC (power), 13 NC, 14 VREF (out)

## UC3842ADW
designator U?
PWM Controller with Current Control, 100 % Duty Cycle, 0 to +70 degC, 16-pin SOIC (DW), Green (RoHS & no Sb/Br); PartNumber: UC3842ADW; Manufacturer: Texas Instruments; Duty Cycle(Max)(%): 100; Frequency(Max)(kHz): 450; Rating: Catalog; Regulated Outputs(#): 1; Topology: Boost, Buck, Flyback, Forward; UVLO Thresholds On/Off(V): 16/10; DatasheetVersion: SLUS224C; PackageVersion: revG, Jan-2011; PackageReference: DW16; PackageDescription: 16-Pin Small Outline Integrated Circuit, 10.3 x 7.5 mm, Pitch 1.27 mm Pitch; Supplier 1: Digi-Key; Supplier Part Number 1: 296-13426-5-ND; Supplier 2: Newark; Supplier Part Number 2: 77C3292; Supplier 3: Mouser; Supplier Part Number 3: 595-UC3842ADW; Control Method: Current; Eco-Plan: Green (RoHS & no Sb/Br); SubFamily: PWM Controller; Mounting Technology: Surface Mount; Code_JEDEC: MS-013-AA; ComponentLink1Description: Datasheet; ComponentLink1URL: http://www.ti.com/general/docs/lit/getliterature.tsp?genericPartNumber=UC3842A&fileType=pdf
footprint DW16_N (SOIC, 16-Leads, Body 10.3x7.5mm, Pitch 1.27mm, IPC Medium Density)
footprint DW16_L (SOIC, 16-Leads, Body 10.3x7.5mm, Pitch 1.27mm, IPC High Density)
footprint DW16_M (SOIC, 16-Leads, Body 10.3x7.5mm, Pitch 1.27mm, IPC Low Density)
pins: 1 NC, 2 NC, 3 COMP (out), 4 VFB (in), 5 ISENSE (in), 6 RT/CT, 7 NC, 8 NC, 9 NC, 10 PWRGND (power), 11 GND (power), 12 OUTPUT (out), 13 VCC (power), 14 VCC (power), 15 VREF (out), 16 NC

## UC3842ADWG4
designator U?
PWM Controller with Current Control, 100 % Duty Cycle, 0 to +70 degC, 16-pin SOIC (DW), Green (RoHS & no Sb/Br); PartNumber: UC3842ADWG4; Manufacturer: Texas Instruments; Duty Cycle(Max)(%): 100; Frequency(Max)(kHz): 450; Rating: Catalog; Regulated Outputs(#): 1; Topology: Boost, Buck, Flyback, Forward; UVLO Thresholds On/Off(V): 16/10; DatasheetVersion: SLUS224C; PackageVersion: revG, Jan-2011; PackageReference: DW16; PackageDescription: 16-Pin Small Outline Integrated Circuit, 10.3 x 7.5 mm, Pitch 1.27 mm Pitch; Supplier 1: Digi-Key; Supplier Part Number 1: UC3842ADWG4-ND; Supplier 2: Newark; Supplier Part Number 2: 63K6740; Supplier 3: Mouser; Supplier Part Number 3: 595-UC3842ADWG4; Control Method: Current; Eco-Plan: Green (RoHS & no Sb/Br); SubFamily: PWM Controller; Mounting Technology: Surface Mount; Code_JEDEC: MS-013-AA; ComponentLink1Description: Datasheet; ComponentLink1URL: http://www.ti.com/general/docs/lit/getliterature.tsp?genericPartNumber=UC3842A&fileType=pdf
footprint DW16_N (SOIC, 16-Leads, Body 10.3x7.5mm, Pitch 1.27mm, IPC Medium Density)
footprint DW16_L (SOIC, 16-Leads, Body 10.3x7.5mm, Pitch 1.27mm, IPC High Density)
footprint DW16_M (SOIC, 16-Leads, Body 10.3x7.5mm, Pitch 1.27mm, IPC Low Density)
pins: 1 NC, 2 NC, 3 COMP (out), 4 VFB (in), 5 ISENSE (in), 6 RT/CT, 7 NC, 8 NC, 9 NC, 10 PWRGND (power), 11 GND (power), 12 OUTPUT (out), 13 VCC (power), 14 VCC (power), 15 VREF (out), 16 NC

## UC3842AN
designator U?
PWM Controller with Current Control, 100 % Duty Cycle, 0 to +70 degC, 8-pin PDIP (P), Green (RoHS & no Sb/Br); PartNumber: UC3842AN; Manufacturer: Texas Instruments; Duty Cycle(Max)(%): 100; Frequency(Max)(kHz): 450; Rating: Catalog; Regulated Outputs(#): 1; Topology: Boost, Buck, Flyback, Forward; UVLO Thresholds On/Off(V): 16/10; DatasheetVersion: SLUS224C; PackageVersion: revE, Apr-2010; PackageReference: P8; PackageDescription: 8-Pin Plastic Dual-In-Line Package, Row Spacing 7.62 mm, Pitch 2.54 mm; Supplier 1: Digi-Key; Supplier Part Number 1: 296-11280-5-ND; Supplier 2: Farnell; Supplier Part Number 2: 1101409; Supplier 3: Newark; Supplier Part Number 3: 74K4012; Supplier 4: Mouser; Supplier Part Number 4: 595-UC3842AN; Control Method: Current; Eco-Plan: Green (RoHS & no Sb/Br); SubFamily: PWM Controller; Mounting Technology: Through Hole; Code_JEDEC: MS-001-BA; ComponentLink1Description: Datasheet; ComponentLink1URL: http://www.ti.com/general/docs/lit/getliterature.tsp?genericPartNumber=UC3842A&fileType=pdf
footprint P8 (DIP, 8-Leads, Row Spacing 7.62mm, Pitch 2.54mm, Body 9.6x6.4mm)
pins: 1 COMP, 2 VFB (in), 3 ISENSE (in), 4 RT/CT, 5 GND (power), 6 OUTPUT (out), 7 VCC (power), 8 VREF (out)

## UC3842ANG4
designator U?
PWM Controller with Current Control, 100 % Duty Cycle, 0 to +70 degC, 8-pin PDIP (P), Green (RoHS & no Sb/Br); PartNumber: UC3842ANG4; Manufacturer: Texas Instruments; Duty Cycle(Max)(%): 100; Frequency(Max)(kHz): 450; Rating: Catalog; Regulated Outputs(#): 1; Topology: Boost, Buck, Flyback, Forward; UVLO Thresholds On/Off(V): 16/10; DatasheetVersion: SLUS224C; PackageVersion: revE, Apr-2010; PackageReference: P8; PackageDescription: 8-Pin Plastic Dual-In-Line Package, Row Spacing 7.62 mm, Pitch 2.54 mm; Supplier 1: Digi-Key; Supplier Part Number 1: UC3842ANG4-ND; Supplier 2: Newark; Supplier Part Number 2: 71J8467; Supplier 3: Mouser; Supplier Part Number 3: 595-UC3842ANG4; Control Method: Current; Eco-Plan: Green (RoHS & no Sb/Br); SubFamily: PWM Controller; Mounting Technology: Through Hole; Code_JEDEC: MS-001-BA; ComponentLink1Description: Datasheet; ComponentLink1URL: http://www.ti.com/general/docs/lit/getliterature.tsp?genericPartNumber=UC3842A&fileType=pdf
footprint P8 (DIP, 8-Leads, Row Spacing 7.62mm, Pitch 2.54mm, Body 9.6x6.4mm)
pins: 1 COMP, 2 VFB (in), 3 ISENSE (in), 4 RT/CT, 5 GND (power), 6 OUTPUT (out), 7 VCC (power), 8 VREF (out)

## UC3842D
designator U?
PWM Controller with Current Control, 100 % Duty Cycle, 0 to +70 degC, 14-pin SOIC (D), Green (RoHS & no Sb/Br); PartNumber: UC3842D; Manufacturer: Texas Instruments; Duty Cycle(Max)(%): 100; Frequency(Max)(kHz): 450; Rating: Catalog; Regulated Outputs(#): 1; Topology: Boost, Buck, Flyback, Forward; UVLO Thresholds On/Off(V): 16/10; DatasheetVersion: SLUS223C; PackageVersion: revM, Jun-2011; PackageReference: D14; PackageDescription: 14-Pin Plastic Small Outline Integrated Circuit, 8.7 x 3.9 mm, Pitch 1.27 mm Pitch; Supplier 1: Digi-Key; Supplier Part Number 1: 296-13427-5-ND; Supplier 2: Farnell; Supplier Part Number 2: 1652427; Supplier 3: Newark; Supplier Part Number 3: 77C3296; Supplier 4: Mouser; Supplier Part Number 4: 595-UC3842D; Control Method: Current; Eco-Plan: Green (RoHS & no Sb/Br); SubFamily: PWM Controller; Mounting Technology: Surface Mount; Code_JEDEC: MS-012AB; ComponentLink1Description: Datasheet; ComponentLink1URL: http://www.ti.com/general/docs/lit/getliterature.tsp?genericPartNumber=UC3842&fileType=pdf
footprint D14_N (SOIC, 14-Leads, Body 8.7x3.9mm, Pitch 1.27mm, IPC Medium Density)
footprint D14_L (SOIC, 14-Leads, Body 8.7x3.9mm, Pitch 1.27mm, IPC High Density)
footprint D14_M (SOIC, 14-Leads, Body 8.7x3.9mm, Pitch 1.27mm, IPC Low Density)
pins: 1 COMP (out), 2 NC, 3 VFB (in), 4 NC, 5 ISENSE (in), 6 NC, 7 RT/CT, 8 PWR GND (power), 9 GROUND (power), 10 OUTPUT (out), 11 VC (power), 12 VCC (power), 13 NC, 14 VREF (out)

## UC3842D8
designator U?
PWM Controller with Current Control, 100 % Duty Cycle, 0 to +70 degC, 8-pin SOIC (D), Green (RoHS & no Sb/Br); PartNumber: UC3842D8; Manufacturer: Texas Instruments; Duty Cycle(Max)(%): 100; Frequency(Max)(kHz): 450; Rating: Catalog; Regulated Outputs(#): 1; Topology: Boost, Buck, Flyback, Forward; UVLO Thresholds On/Off(V): 16/10; DatasheetVersion: SLUS223C; PackageVersion: revM, Jun-2011; PackageReference: D8; PackageDescription: 8-Pin Plastic Small Outline Integrated Circuit, 4.9 x 3.9 mm, Pitch 1.27 mm Pitch; Supplier 1: Digi-Key; Supplier Part Number 1: 296-11281-5-ND; Supplier 2: Newark; Supplier Part Number 2: 77C3298; Supplier 3: Mouser; Supplier Part Number 3: 595-UC3842D8; Control Method: Current; Eco-Plan: Green (RoHS & no Sb/Br); SubFamily: PWM Controller; Mounting Technology: Surface Mount; Code_JEDEC: MS-012AA; ComponentLink1Description: Datasheet; ComponentLink1URL: http://www.ti.com/general/docs/lit/getliterature.tsp?genericPartNumber=UC3842&fileType=pdf
footprint D8_N (SOIC, 8-Leads, Body 4.9x3.9mm, Pitch 1.27mm, IPC Medium Density)
footprint D8_L (SOIC, 8-Leads, Body 4.9x3.9mm, Pitch 1.27mm, IPC High Density)
footprint D8_M (SOIC, 8-Leads, Body 4.9x3.9mm, Pitch 1.27mm, IPC Low Density)
pins: 1 COMP, 2 VFB (in), 3 ISENSE (in), 4 RT/CT, 5 GROUND (power), 6 OUTPUT (out), 7 VCC (power), 8 VREF (out)

## UC3842D8G4
designator U?
PWM Controller with Current Control, 100 % Duty Cycle, 0 to +70 degC, 8-pin SOIC (D), Green (RoHS & no Sb/Br); PartNumber: UC3842D8G4; Manufacturer: Texas Instruments; Duty Cycle(Max)(%): 100; Frequency(Max)(kHz): 450; Rating: Catalog; Regulated Outputs(#): 1; Topology: Boost, Buck, Flyback, Forward; UVLO Thresholds On/Off(V): 16/10; DatasheetVersion: SLUS223C; PackageVersion: revM, Jun-2011; PackageReference: D8; PackageDescription: 8-Pin Plastic Small Outline Integrated Circuit, 4.9 x 3.9 mm, Pitch 1.27 mm Pitch; Supplier 1: Digi-Key; Supplier Part Number 1: UC3842D8G4-ND; Supplier 2: Newark; Supplier Part Number 2: 70K6017; Supplier 3: Mouser; Supplier Part Number 3: 595-UC3842D8G4; Control Method: Current; Eco-Plan: Green (RoHS & no Sb/Br); SubFamily: PWM Controller; Mounting Technology: Surface Mount; Code_JEDEC: MS-012AA; ComponentLink1Description: Datasheet; ComponentLink1URL: http://www.ti.com/general/docs/lit/getliterature.tsp?genericPartNumber=UC3842&fileType=pdf
footprint D8_N (SOIC, 8-Leads, Body 4.9x3.9mm, Pitch 1.27mm, IPC Medium Density)
footprint D8_L (SOIC, 8-Leads, Body 4.9x3.9mm, Pitch 1.27mm, IPC High Density)
footprint D8_M (SOIC, 8-Leads, Body 4.9x3.9mm, Pitch 1.27mm, IPC Low Density)
pins: 1 COMP, 2 VFB (in), 3 ISENSE (in), 4 RT/CT, 5 GROUND (power), 6 OUTPUT (out), 7 VCC (power), 8 VREF (out)

## UC3842D8TR
designator U?
PWM Controller with Current Control, 100 % Duty Cycle, 0 to +70 degC, 8-pin SOIC (D), Green (RoHS & no Sb/Br); PartNumber: UC3842D8TR; Manufacturer: Texas Instruments; Duty Cycle(Max)(%): 100; Frequency(Max)(kHz): 450; Rating: Catalog; Regulated Outputs(#): 1; Topology: Boost, Buck, Flyback, Forward; UVLO Thresholds On/Off(V): 16/10; DatasheetVersion: SLUS223C; PackageVersion: revM, Jun-2011; PackageReference: D8; PackageDescription: 8-Pin Plastic Small Outline Integrated Circuit, 4.9 x 3.9 mm, Pitch 1.27 mm Pitch; Supplier 1: Digi-Key; Supplier Part Number 1: UC3842D8TR-ND; Supplier 2: Newark; Supplier Part Number 2: 77C3299; Supplier 3: Mouser; Supplier Part Number 3: 595-UC3842D8TR; Control Method: Current; Eco-Plan: Green (RoHS & no Sb/Br); SubFamily: PWM Controller; Mounting Technology: Surface Mount; Code_JEDEC: MS-012AA; ComponentLink1Description: Datasheet; ComponentLink1URL: http://www.ti.com/general/docs/lit/getliterature.tsp?genericPartNumber=UC3842&fileType=pdf
footprint D8_N (SOIC, 8-Leads, Body 4.9x3.9mm, Pitch 1.27mm, IPC Medium Density)
footprint D8_L (SOIC, 8-Leads, Body 4.9x3.9mm, Pitch 1.27mm, IPC High Density)
footprint D8_M (SOIC, 8-Leads, Body 4.9x3.9mm, Pitch 1.27mm, IPC Low Density)
pins: 1 COMP, 2 VFB (in), 3 ISENSE (in), 4 RT/CT, 5 GROUND (power), 6 OUTPUT (out), 7 VCC (power), 8 VREF (out)

## UC3842D8TRG4
designator U?
PWM Controller with Current Control, 100 % Duty Cycle, 0 to +70 degC, 8-pin SOIC (D), Green (RoHS & no Sb/Br); PartNumber: UC3842D8TRG4; Manufacturer: Texas Instruments; Duty Cycle(Max)(%): 100; Frequency(Max)(kHz): 450; Rating: Catalog; Regulated Outputs(#): 1; Topology: Boost, Buck, Flyback, Forward; UVLO Thresholds On/Off(V): 16/10; DatasheetVersion: SLUS223C; PackageVersion: revM, Jun-2011; PackageReference: D8; PackageDescription: 8-Pin Plastic Small Outline Integrated Circuit, 4.9 x 3.9 mm, Pitch 1.27 mm Pitch; Supplier 1: Digi-Key; Supplier Part Number 1: UC3842D8TRG4-ND; Supplier 2: Newark; Supplier Part Number 2: 54K2329; Supplier 3: Mouser; Supplier Part Number 3: 595-UC3842D8TRG4; Control Method: Current; Eco-Plan: Green (RoHS & no Sb/Br); SubFamily: PWM Controller; Mounting Technology: Surface Mount; Code_JEDEC: MS-012AA; ComponentLink1Description: Datasheet; ComponentLink1URL: http://www.ti.com/general/docs/lit/getliterature.tsp?genericPartNumber=UC3842&fileType=pdf
footprint D8_N (SOIC, 8-Leads, Body 4.9x3.9mm, Pitch 1.27mm, IPC Medium Density)
footprint D8_L (SOIC, 8-Leads, Body 4.9x3.9mm, Pitch 1.27mm, IPC High Density)
footprint D8_M (SOIC, 8-Leads, Body 4.9x3.9mm, Pitch 1.27mm, IPC Low Density)
pins: 1 COMP, 2 VFB (in), 3 ISENSE (in), 4 RT/CT, 5 GROUND (power), 6 OUTPUT (out), 7 VCC (power), 8 VREF (out)

## UC3842DG4
designator U?
PWM Controller with Current Control, 100 % Duty Cycle, 0 to +70 degC, 14-pin SOIC (D), Green (RoHS & no Sb/Br); PartNumber: UC3842DG4; Manufacturer: Texas Instruments; Duty Cycle(Max)(%): 100; Frequency(Max)(kHz): 450; Rating: Catalog; Regulated Outputs(#): 1; Topology: Boost, Buck, Flyback, Forward; UVLO Thresholds On/Off(V): 16/10; DatasheetVersion: SLUS223C; PackageVersion: revM, Jun-2011; PackageReference: D14; PackageDescription: 14-Pin Plastic Small Outline Integrated Circuit, 8.7 x 3.9 mm, Pitch 1.27 mm Pitch; Supplier 1: Digi-Key; Supplier Part Number 1: UC3842DG4-ND; Supplier 2: Newark; Supplier Part Number 2: 81K4522; Supplier 3: Mouser; Supplier Part Number 3: 595-UC3842DG4; Control Method: Current; Eco-Plan: Green (RoHS & no Sb/Br); SubFamily: PWM Controller; Mounting Technology: Surface Mount; Code_JEDEC: MS-012AB; ComponentLink1Description: Datasheet; ComponentLink1URL: http://www.ti.com/general/docs/lit/getliterature.tsp?genericPartNumber=UC3842&fileType=pdf
footprint D14_N (SOIC, 14-Leads, Body 8.7x3.9mm, Pitch 1.27mm, IPC Medium Density)
footprint D14_L (SOIC, 14-Leads, Body 8.7x3.9mm, Pitch 1.27mm, IPC High Density)
footprint D14_M (SOIC, 14-Leads, Body 8.7x3.9mm, Pitch 1.27mm, IPC Low Density)
pins: 1 COMP (out), 2 NC, 3 VFB (in), 4 NC, 5 ISENSE (in), 6 NC, 7 RT/CT, 8 PWR GND (power), 9 GROUND (power), 10 OUTPUT (out), 11 VC (power), 12 VCC (power), 13 NC, 14 VREF (out)

## UC3842DTR
designator U?
PWM Controller with Current Control, 100 % Duty Cycle, 0 to +70 degC, 14-pin SOIC (D), Green (RoHS & no Sb/Br); PartNumber: UC3842DTR; Manufacturer: Texas Instruments; Duty Cycle(Max)(%): 100; Frequency(Max)(kHz): 450; Rating: Catalog; Regulated Outputs(#): 1; Topology: Boost, Buck, Flyback, Forward; UVLO Thresholds On/Off(V): 16/10; DatasheetVersion: SLUS223C; PackageVersion: revM, Jun-2011; PackageReference: D14; PackageDescription: 14-Pin Plastic Small Outline Integrated Circuit, 8.7 x 3.9 mm, Pitch 1.27 mm Pitch; Supplier 1: Digi-Key; Supplier Part Number 1: UC3842DTR-ND; Supplier 2: Newark; Supplier Part Number 2: 77C3297; Supplier 3: Mouser; Supplier Part Number 3: 595-UC3842DTR; Control Method: Current; Eco-Plan: Green (RoHS & no Sb/Br); SubFamily: PWM Controller; Mounting Technology: Surface Mount; Code_JEDEC: MS-012AB; ComponentLink1Description: Datasheet; ComponentLink1URL: http://www.ti.com/general/docs/lit/getliterature.tsp?genericPartNumber=UC3842&fileType=pdf
footprint D14_N (SOIC, 14-Leads, Body 8.7x3.9mm, Pitch 1.27mm, IPC Medium Density)
footprint D14_L (SOIC, 14-Leads, Body 8.7x3.9mm, Pitch 1.27mm, IPC High Density)
footprint D14_M (SOIC, 14-Leads, Body 8.7x3.9mm, Pitch 1.27mm, IPC Low Density)
pins: 1 COMP (out), 2 NC, 3 VFB (in), 4 NC, 5 ISENSE (in), 6 NC, 7 RT/CT, 8 PWR GND (power), 9 GROUND (power), 10 OUTPUT (out), 11 VC (power), 12 VCC (power), 13 NC, 14 VREF (out)

## UC3842DTRG4
designator U?
PWM Controller with Current Control, 100 % Duty Cycle, 0 to +70 degC, 14-pin SOIC (D), Green (RoHS & no Sb/Br); PartNumber: UC3842DTRG4; Manufacturer: Texas Instruments; Duty Cycle(Max)(%): 100; Frequency(Max)(kHz): 450; Rating: Catalog; Regulated Outputs(#): 1; Topology: Boost, Buck, Flyback, Forward; UVLO Thresholds On/Off(V): 16/10; DatasheetVersion: SLUS223C; PackageVersion: revM, Jun-2011; PackageReference: D14; PackageDescription: 14-Pin Plastic Small Outline Integrated Circuit, 8.7 x 3.9 mm, Pitch 1.27 mm Pitch; Supplier 1: Digi-Key; Supplier Part Number 1: UC3842DTRG4-ND; Supplier 2: Newark; Supplier Part Number 2: 54K2328; Supplier 3: Mouser; Supplier Part Number 3: 595-UC3842DTRG4; Control Method: Current; Eco-Plan: Green (RoHS & no Sb/Br); SubFamily: PWM Controller; Mounting Technology: Surface Mount; Code_JEDEC: MS-012AB; ComponentLink1Description: Datasheet; ComponentLink1URL: http://www.ti.com/general/docs/lit/getliterature.tsp?genericPartNumber=UC3842&fileType=pdf
footprint D14_N (SOIC, 14-Leads, Body 8.7x3.9mm, Pitch 1.27mm, IPC Medium Density)
footprint D14_L (SOIC, 14-Leads, Body 8.7x3.9mm, Pitch 1.27mm, IPC High Density)
footprint D14_M (SOIC, 14-Leads, Body 8.7x3.9mm, Pitch 1.27mm, IPC Low Density)
pins: 1 COMP (out), 2 NC, 3 VFB (in), 4 NC, 5 ISENSE (in), 6 NC, 7 RT/CT, 8 PWR GND (power), 9 GROUND (power), 10 OUTPUT (out), 11 VC (power), 12 VCC (power), 13 NC, 14 VREF (out)

## UC3842J
designator U?
PWM Controller with Current Control, 100 % Duty Cycle, 8-pin CDIP (JG); PartNumber: UC3842J; Manufacturer: Texas Instruments; Duty Cycle(Max)(%): 100; Eco-Plan: TBD; Frequency(Max)(kHz): 450; Rating: Military; Regulated Outputs(#): 1; Topology: Boost, Buck, Flyback, Forward; UVLO Thresholds On/Off(V): 16/10; DatasheetVersion: SLUS224C; PackageVersion: revC, Aug-1996; PackageReference: JG8; PackageDescription: 8-Pin Ceramic Dual-In-Line Package, Row Spacing 7.62 mm, Pitch 2.54 mm; Control Method: Current; SubFamily: PWM Controller; Mounting Technology: Through Hole; ComponentLink1Description: Datasheet; ComponentLink1URL: http://www.ti.com/general/docs/lit/getliterature.tsp?genericPartNumber=UC3842M&fileType=pdf
footprint JG8 (DIP, 8-Leads, Row Spacing 7.62mm, Pitch 2.54mm, Body 9.6x6.7mm)
pins: 1 COMP, 2 VFB (in), 3 ISENSE (in), 4 RT/CT, 5 GND (power), 6 OUTPUT (out), 7 VCC (power), 8 VREF (out)

## UC3842N
designator U?
PWM Controller with Current Control, 100 % Duty Cycle, 0 to +70 degC, 8-pin PDIP (P), Green (RoHS & no Sb/Br); PartNumber: UC3842N; Manufacturer: Texas Instruments; Duty Cycle(Max)(%): 100; Frequency(Max)(kHz): 450; Rating: Catalog; Regulated Outputs(#): 1; Topology: Boost, Buck, Flyback, Forward; UVLO Thresholds On/Off(V): 16/10; DatasheetVersion: SLUS223C; PackageVersion: revE, Apr-2010; PackageReference: P8; PackageDescription: 8-Pin Plastic Dual-In-Line Package, Row Spacing 7.62 mm, Pitch 2.54 mm; Supplier 1: Digi-Key; Supplier Part Number 1: 296-11282-5-ND; Supplier 2: Farnell; Supplier Part Number 2: 2148866; Supplier 3: Newark; Supplier Part Number 3: 74K4013; Supplier 4: Mouser; Supplier Part Number 4: 595-UC3842N; Control Method: Current; Eco-Plan: Green (RoHS & no Sb/Br); SubFamily: PWM Controller; Mounting Technology: Through Hole; Code_JEDEC: MS-001-BA; ComponentLink1Description: Datasheet; ComponentLink1URL: http://www.ti.com/general/docs/lit/getliterature.tsp?genericPartNumber=UC3842&fileType=pdf
footprint P8 (DIP, 8-Leads, Row Spacing 7.62mm, Pitch 2.54mm, Body 9.6x6.4mm)
pins: 1 COMP, 2 VFB (in), 3 ISENSE (in), 4 RT/CT, 5 GROUND (power), 6 OUTPUT (out), 7 VCC (power), 8 VREF (out)

## UC3842NG4
designator U?
PWM Controller with Current Control, 100 % Duty Cycle, 0 to +70 degC, 8-pin PDIP (P), Green (RoHS & no Sb/Br); PartNumber: UC3842NG4; Manufacturer: Texas Instruments; Duty Cycle(Max)(%): 100; Frequency(Max)(kHz): 450; Rating: Catalog; Regulated Outputs(#): 1; Topology: Boost, Buck, Flyback, Forward; UVLO Thresholds On/Off(V): 16/10; DatasheetVersion: SLUS223C; PackageVersion: revE, Apr-2010; PackageReference: P8; PackageDescription: 8-Pin Plastic Dual-In-Line Package, Row Spacing 7.62 mm, Pitch 2.54 mm; Supplier 1: Digi-Key; Supplier Part Number 1: UC3842NG4-ND; Supplier 2: Farnell; Supplier Part Number 2: 1207388; Supplier 3: Newark; Supplier Part Number 3: 24M8897; Supplier 4: Newark; Supplier Part Number 4: 66K4924; Supplier 5: Mouser; Supplier Part Number 5: 595-UC3842NG4; Control Method: Current; Eco-Plan: Green (RoHS & no Sb/Br); SubFamily: PWM Controller; Mounting Technology: Through Hole; Code_JEDEC: MS-001-BA; ComponentLink1Description: Datasheet; ComponentLink1URL: http://www.ti.com/general/docs/lit/getliterature.tsp?genericPartNumber=UC3842&fileType=pdf
footprint P8 (DIP, 8-Leads, Row Spacing 7.62mm, Pitch 2.54mm, Body 9.6x6.4mm)
pins: 1 COMP, 2 VFB (in), 3 ISENSE (in), 4 RT/CT, 5 GROUND (power), 6 OUTPUT (out), 7 VCC (power), 8 VREF (out)